# EAGLE library part 10M08SAE144C8G (library tmAltera_Max10)
Altera 10M08SAE144C8G
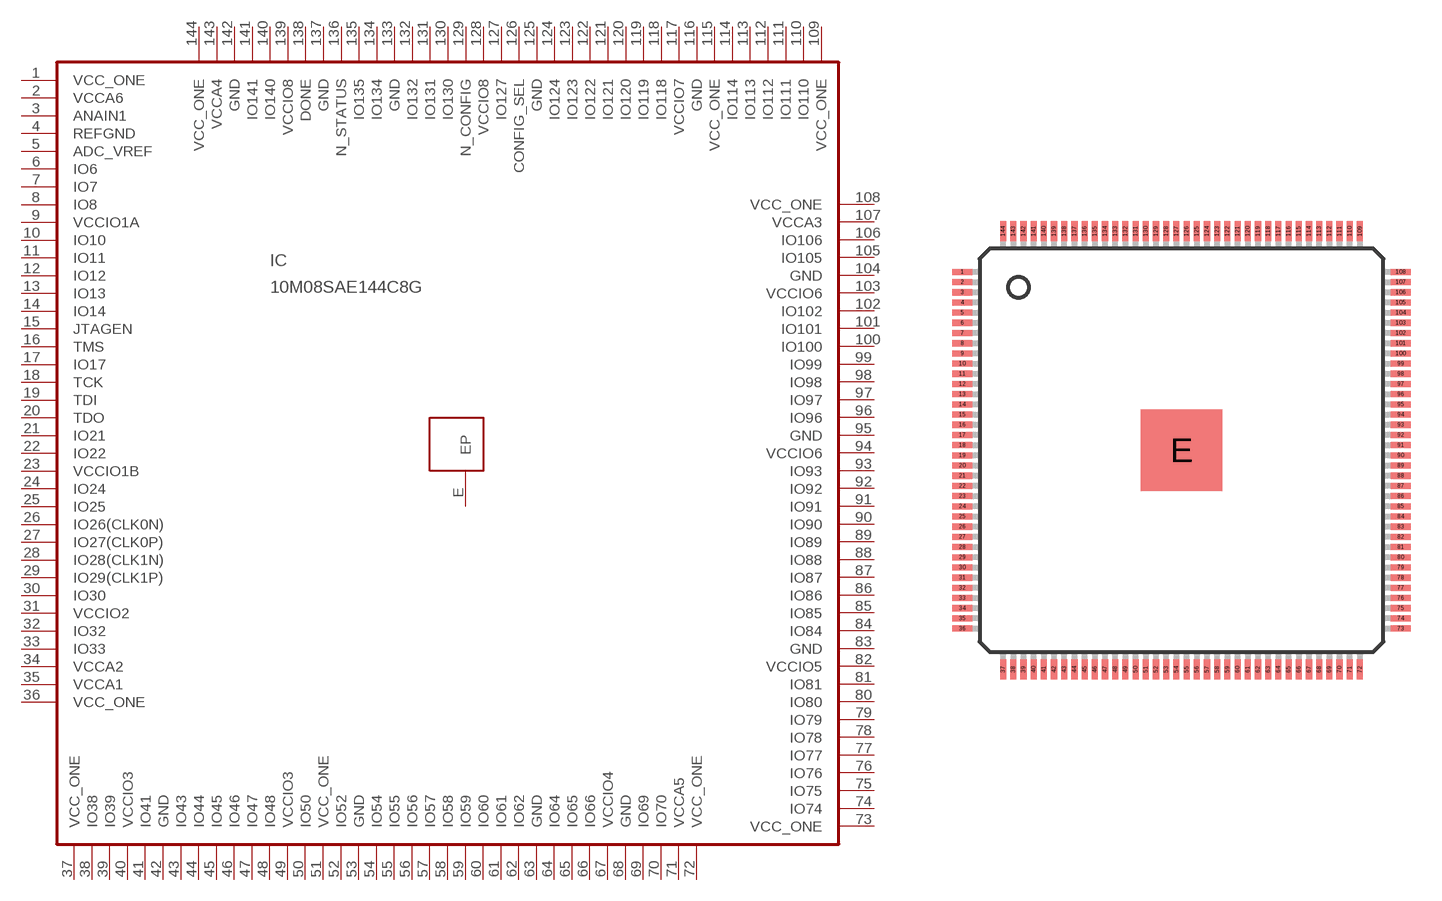
[diagram p0: symbol with the pads of EQFP144; footprint EQFP144]

Designator prefix IC

## 10M08SAE144C8G  [EQFP144]
1  VCC_ONE  pwr
2  VCCA6  pwr
3  ANAIN1  in
4  REFGND  pwr
5  ADC_VREF  pwr
6  IO6
7  IO7
8  IO8
9  VCCIO1A  pwr
10  IO10
11  IO11
12  IO12
13  IO13
14  IO14
15  JTAGEN  in
16  TMS  in
17  IO17
18  TCK  in
19  TDI  in
20  TDO  out
21  IO21
22  IO22
23  VCCIO1B  pwr
24  IO24
25  IO25
26  IO26(CLK0N)
27  IO27(CLK0P)
28  IO28(CLK1N)
29  IO29(CLK1P)
30  IO30
31  VCCIO2  pwr
32  IO32
33  IO33
34  VCCA2  pwr
35  VCCA1  pwr
36  VCC_ONE  pwr
37  VCC_ONE  pwr
38  IO38
39  IO39
40  VCCIO3  pwr
41  IO41
42  GND  pwr
43  IO43
44  IO44
45  IO45
46  IO46
47  IO47
48  IO48
49  VCCIO3  pwr
50  IO50
51  VCC_ONE  pwr
52  IO52
53  GND  pwr
54  IO54
55  IO55
56  IO56
57  IO57
58  IO58
59  IO59
60  IO60
61  IO61
62  IO62
63  GND  pwr
64  IO64
65  IO65
66  IO66
67  VCCIO4  pwr
68  GND  pwr
69  IO69
70  IO70
71  VCCA5  pwr
72  VCC_ONE  pwr
73  VCC_ONE  pwr
74  IO74
75  IO75
76  IO76
77  IO77
78  IO78
79  IO79
80  IO80
81  IO81
82  VCCIO5  pwr
83  GND  pwr
84  IO84
85  IO85
86  IO86
87  IO87
88  IO88
89  IO89
90  IO90
91  IO91
92  IO92
93  IO93
94  VCCIO6  pwr
95  GND  pwr
96  IO96
97  IO97
98  IO98
99  IO99
100  IO100
101  IO101
102  IO102
103  VCCIO6  pwr
104  GND  pwr
105  IO105
106  IO106
107  VCCA3  pwr
108  VCC_ONE  pwr
109  VCC_ONE  pwr
110  IO110
111  IO111
112  IO112
113  IO113
114  IO114
115  VCC_ONE  pwr
116  GND  pwr
117  VCCIO7  pwr
118  IO118
119  IO119
120  IO120
121  IO121
122  IO122
123  IO123
124  IO124
125  GND  pwr
126  CONFIG_SEL  in
127  IO127
128  VCCIO8  pwr
129  N_CONFIG  out
130  IO130
131  IO131
132  IO132
133  GND  pwr
134  IO134
135  IO135
136  N_STATUS  out
137  GND  pwr
138  DONE  out
139  VCCIO8  pwr
140  IO140
141  IO141
142  GND  pwr
143  VCCA4  pwr
144  VCC_ONE  pwr
E  EP  pwr

## Footprint EQFP144 (pad centres in mm)
EQFP144 Source: http://www.altera.com/literature/ds/144-EQFP.pdf
smd 1 x 0.3: 1 -10.75,8.75; 2 -10.75,8.25; 3 -10.75,7.75; 4 -10.75,7.25; 5 -10.75,6.75; 6 -10.75,6.25; 7 -10.75,5.75; 8 -10.75,5.25; 9 -10.75,4.75; 10 -10.75,4.25; 11 -10.75,3.75; 12 -10.75,3.25; 13 -10.75,2.75; 14 -10.75,2.25; 15 -10.75,1.75; 16 -10.75,1.25; 17 -10.75,0.75; 18 -10.75,0.25; 19 -10.75,-0.25; 20 -10.75,-0.75; 21 -10.75,-1.25; 22 -10.75,-1.75; 23 -10.75,-2.25; 24 -10.75,-2.75; 25 -10.75,-3.25; 26 -10.75,-3.75; 27 -10.75,-4.25; 28 -10.75,-4.75; 29 -10.75,-5.25; 30 -10.75,-5.75; 31 -10.75,-6.25; 32 -10.75,-6.75; 33 -10.75,-7.25; 34 -10.75,-7.75; 35 -10.75,-8.25; 36 -10.75,-8.75; 73 10.75,-8.75; 74 10.75,-8.25; 75 10.75,-7.75; 76 10.75,-7.25; 77 10.75,-6.75; 78 10.75,-6.25; 79 10.75,-5.75; 80 10.75,-5.25; 81 10.75,-4.75; 82 10.75,-4.25; 83 10.75,-3.75; 84 10.75,-3.25; 85 10.75,-2.75; 86 10.75,-2.25; 87 10.75,-1.75; 88 10.75,-1.25; 89 10.75,-0.75; 90 10.75,-0.25; 91 10.75,0.25; 92 10.75,0.75; 93 10.75,1.25; 94 10.75,1.75; 95 10.75,2.25; 96 10.75,2.75; 97 10.75,3.25; 98 10.75,3.75; 99 10.75,4.25; 100 10.75,4.75; 101 10.75,5.25; 102 10.75,5.75; 103 10.75,6.25; 104 10.75,6.75; 105 10.75,7.25; 106 10.75,7.75; 107 10.75,8.25; 108 10.75,8.75
smd 0.3 x 1: 37 -8.75,-10.75; 38 -8.25,-10.75; 39 -7.75,-10.75; 40 -7.25,-10.75; 41 -6.75,-10.75; 42 -6.25,-10.75; 43 -5.75,-10.75; 44 -5.25,-10.75; 45 -4.75,-10.75; 46 -4.25,-10.75; 47 -3.75,-10.75; 48 -3.25,-10.75; 49 -2.75,-10.75; 50 -2.25,-10.75; 51 -1.75,-10.75; 52 -1.25,-10.75; 53 -0.75,-10.75; 54 -0.25,-10.75; 55 0.25,-10.75; 56 0.75,-10.75; 57 1.25,-10.75; 58 1.75,-10.75; 59 2.25,-10.75; 60 2.75,-10.75; 61 3.25,-10.75; 62 3.75,-10.75; 63 4.25,-10.75; 64 4.75,-10.75; 65 5.25,-10.75; 66 5.75,-10.75; 67 6.25,-10.75; 68 6.75,-10.75; 69 7.25,-10.75; 70 7.75,-10.75; 71 8.25,-10.75; 72 8.75,-10.75; 109 8.75,10.75; 110 8.25,10.75; 111 7.75,10.75; 112 7.25,10.75; 113 6.75,10.75; 114 6.25,10.75; 115 5.75,10.75; 116 5.25,10.75; 117 4.75,10.75; 118 4.25,10.75; 119 3.75,10.75; 120 3.25,10.75; 121 2.75,10.75; 122 2.25,10.75; 123 1.75,10.75; 124 1.25,10.75; 125 0.75,10.75; 126 0.25,10.75; 127 -0.25,10.75; 128 -0.75,10.75; 129 -1.25,10.75; 130 -1.75,10.75; 131 -2.25,10.75; 132 -2.75,10.75; 133 -3.25,10.75; 134 -3.75,10.75; 135 -4.25,10.75; 136 -4.75,10.75; 137 -5.25,10.75; 138 -5.75,10.75; 139 -6.25,10.75; 140 -6.75,10.75; 141 -7.25,10.75; 142 -7.75,10.75; 143 -8.25,10.75; 144 -8.75,10.75
smd 4 x 4: E 0,0